# EAGLE library part TPS73XX (library tps73xx)
texas instruments TPS73XX 500mA LDO regulator
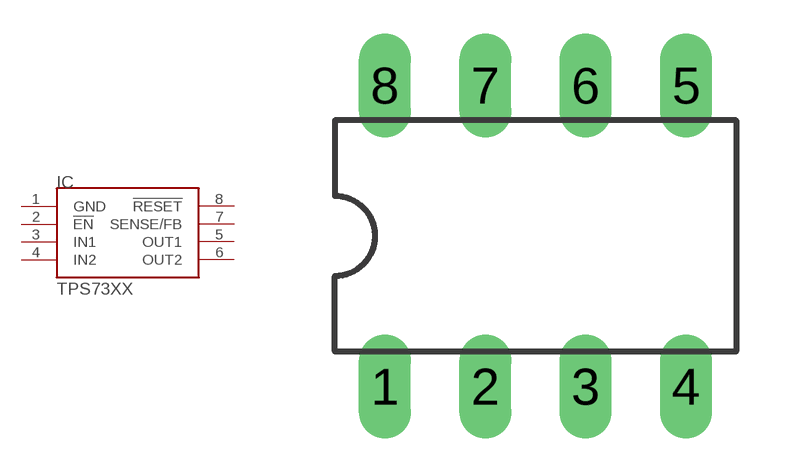
[diagram p0: symbol with the pads of DIL08; footprint DIL08]

Designator prefix IC

## TPS73XX  [DIL08]
1  GND  pwr
2  !EN  pwr
3  IN1  pas
4  IN2  pas
5  OUT1  pas
6  OUT2  pas
7  SENSE/FB  pwr
8  !RESET  pwr

## Footprint DIL08 (pad centres in mm)
drill 0.813 long: 1 -3.81,-3.81; 2 -1.27,-3.81; 3 1.27,-3.81; 4 3.81,-3.81; 5 3.81,3.81; 6 1.27,3.81; 7 -1.27,3.81; 8 -3.81,3.81